# Altium schematic symbol library Conn,Header,2x2Pin,3mm,Thru.Schlib: 1 symbol
Pins are listed as number, name and electrical type; pins without a type are passive.

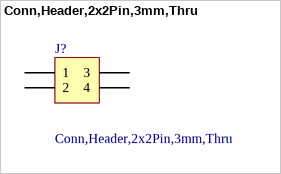
[diagram p0: symbol Conn,Header,2x2Pin,3mm,Thru]

## Conn,Header,2x2Pin,3mm,Thru
designator J?
pins: 1, 2, 3, 4